# Altium footprint library PcbLib1.PcbLib: 35 footprints (part 2 of 3)
Each footprint in its own frame and in the unit in brackets; x right, y up, seen from the top. Pads: shape width x height; smd on the part's side, far side on the other; paste and mask are expansions set on the pad; w line width, h text height; cw(c..) or ccw(c..) is an arc to the next point about the centre after c.
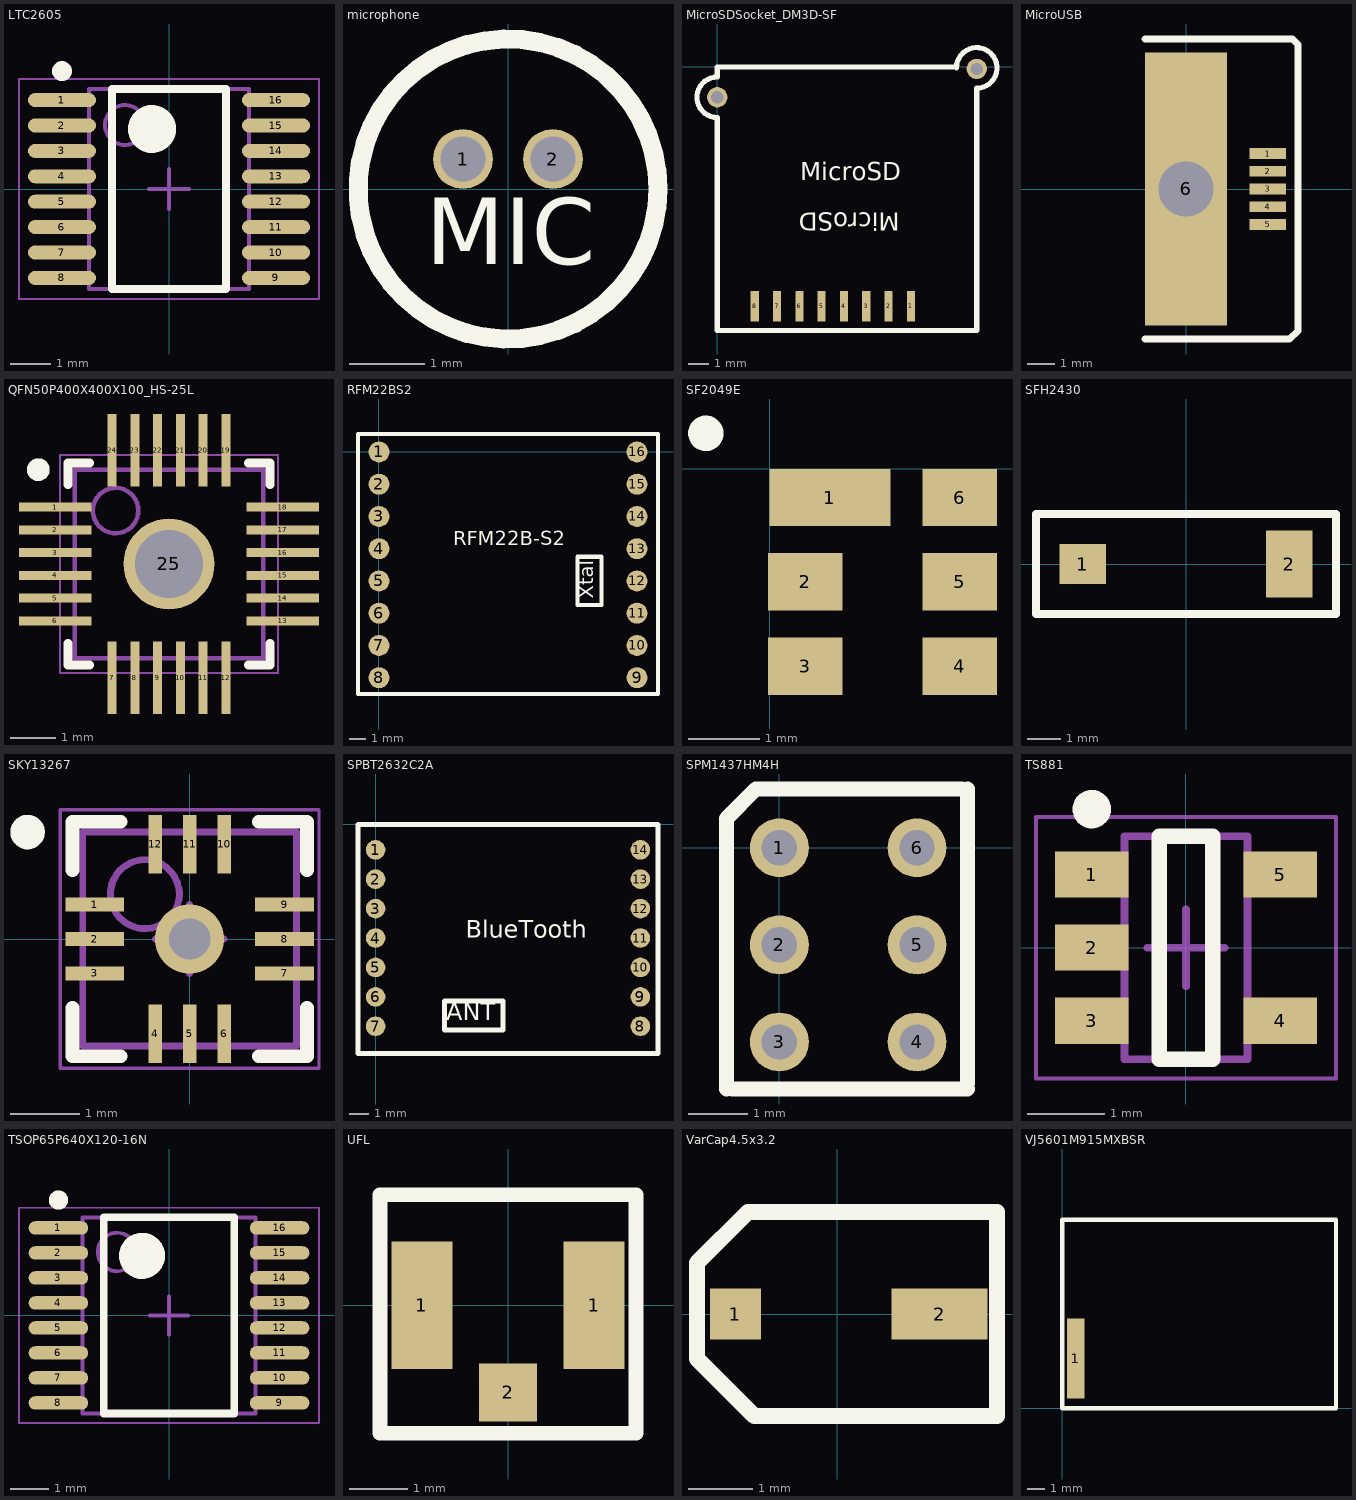
[diagram p1: the footprints below, top view; thin cyan lines are the x and y axes]

## LTC2605 [mm] "TSOP, 16-Leads, Body 4.89x3.90mm, Pitch 0.64mm, IPC Medium Density"
height 1.2
pads (16):
  oval 1.7x0.35 smd: 1(-2.675,2.222) 2(-2.675,1.587) 3(-2.675,0.953) 4(-2.675,0.318) 5(-2.675,-0.318) 6(-2.675,-0.953) 7(-2.675,-1.587) 8(-2.675,-2.222) 9(2.675,-2.222) 10(2.675,-1.587) 11(2.675,-0.953) 12(2.675,-0.318) 13(2.675,0.318) 14(2.675,0.953) 15(2.675,1.587) 16(2.675,2.222)
Top Overlay:
  circle w0.25: c-2.675,2.947 r0.125
  circle w0.6: c-0.425,1.5 r0.3
  lines w0.2: -1.425,-2.5 -1.425,2.5 1.425,2.5 1.425,-2.5 -1.425,-2.5
Mechanical 13:
  circle w0.1: c-1.1,1.6 r0.5
  lines w0.1: -2,-2.5 -2,2.5 2,2.5 2,-2.5 -2,-2.5
Mechanical 15:
  lines w0.05: -3.75,-2.75 -3.75,2.75 3.75,2.75 3.75,-2.75 -3.75,-2.75
  lines w0.1: -0.5,0 0.5,0 ; 0,-0.5 0,0.5

## microphone [mm]
pads (2):
  round 0.8 hole 0.6: 1(-0.6,0.4) 2(0.6,0.4)
Top Overlay:
  circle w0.254: c0,0 r2
  text "MIC" at -1.1,-1.3 h1.52

## MicroSDSocket_DM3D-SF [mm]
height 2
pads (10):
  rect 0.4x1.5 smd: 1(9.55,-11.8) 2(8.45,-11.8) 3(7.35,-11.8) 4(6.25,-11.8) 5(5.15,-11.8) 6(4.05,-11.8) 7(2.95,-11.8) 8(1.85,-11.8)
  round 1 hole 0.6: ""(0,-1.5) ""(12.8,-0.1)
Top Overlay:
  lines w0.254: 11.8,-0.05 cw(c12.8,-0.05) 12.8,-1.05 12.8,-13 0,-13 0,-2.5 cw(c0,-1.5) 0,-0.5 0,0 2.5,0 11.8,0
  text "MicroSD" at 4.1,-5.9 h1.52
  text "MicroSD" at 9,-6.9 h1.52

## MicroUSB [mm]
pads (6):
  rect 1.35x0.4 smd: 1(3,1.3) 2(3,0.65) 3(3,0) 4(3,-0.65) 5(3,-1.3)
  rect 3x10 hole 2: 6(0,0)
Top Overlay:
  lines w0.254: -1.5,-5.5 3.8,-5.5 4.1,-5.2 4.1,5.3 3.9,5.5 -1.5,5.5

## QFN50P400X400X100_HS-25L [mm] "QFN, 24-Leads, Body 4.00x4.00mm, Pitch 0.50mm, Thermal Pad 3.00x3.00mm, IPC High Density"
height 1
pads (25):
  rect 1.6x0.2 smd: 1(-12.5,11.25) 2(-12.5,10.75) 3(-12.5,10.25) 4(-12.5,9.75) 5(-12.5,9.25) 6(-12.5,8.75) 13(-7.5,8.75) 14(-7.5,9.25) 15(-7.5,9.75) 16(-7.5,10.25) 17(-7.5,10.75) 18(-7.5,11.25)
  rect 0.2x1.6 smd: 7(-11.25,7.5) 8(-10.75,7.5) 9(-10.25,7.5) 10(-9.75,7.5) 11(-9.25,7.5) 12(-8.75,7.5) 19(-8.75,12.5) 20(-9.25,12.5) 21(-9.75,12.5) 22(-10.25,12.5) 23(-10.75,12.5) 24(-11.25,12.5)
  round 2 hole 1.5: 25(-10,10)
Top Overlay:
  circle w0.25: c-12.875,12.075 r0.125
  lines w0.2: -12.225,8.25 -12.225,7.775 -11.75,7.775 ; -12.225,11.75 -12.225,12.225 -11.75,12.225 ; -8.25,7.775 -7.775,7.775 -7.775,8.25 ; -8.25,12.225 -7.775,12.225 -7.775,11.75
Mechanical 13:
  circle w0.1: c-11.175,11.175 r0.5
  lines w0.1: -12.075,7.925 -12.075,12.075 -7.925,12.075 -7.925,7.925 -12.075,7.925
Mechanical 15:
  lines w0.05: -12.4,7.6 -12.4,12.4 -7.6,12.4 -7.6,7.6 -12.4,7.6
  lines w0.1: -10.5,10 -9.5,10 ; -10,9.5 -10,10.5
3D body: height 1, standoff 0.01, extent -12.075,7.925 -7.925,12.075

## RFM22BS2 [mm]
height 2
pads (16):
  round 1.3 smd: 1(0,0) 2(0,-2) 3(0,-4) 4(0,-6) 5(0,-8) 6(0,-10) 7(0,-12) 8(0,-14) 9(16,-14) 10(16,-12) 11(16,-10) 12(16,-8) 13(16,-6) 14(16,-4) 15(16,-2) 16(16,0)
Top Overlay:
  lines w0.254: -1.3,-15 -1.3,1.1 17.3,1.1 17.3,-14.9 ; -1.2,-15 17.3,-15 ; 12.3,-9.5 12.3,-6.5 13.8,-6.5 13.8,-9.5 12.3,-9.5
  text "Xtal" at 13.6,-9.1 h1.52
  text "RFM22B-S2" at 4.6,-6.1 h1.52

## SF2049E [mm]
pads (6):
  rect 1.7x0.81 smd: 1(0.85,-0.405)
  rect 1.05x0.81 smd: 2(0.503,-1.595) 3(0.503,-2.785) 4(2.68,-2.785) 5(2.68,-1.595) 6(2.68,-0.405)
Top Overlay:
  circle w0.25: c-0.9,0.5 r0.125

## SFH2430 [mm]
pads (2):
  rect 1.4x1.2 smd: 1(-3.1,0)
  rect 1.4x2 smd: 2(3.1,0)
Top Overlay:
  lines w0.254: -4.5,-1.5 4.5,-1.5 4.5,1.5 -4.5,1.5 -4.5,-1.5

## SKY13267 [mm] "QFN, 12-Leads, Body 3.00x3.00mm, Pitch 0.50mm, Thermal Pad 1.43x1.43mm, IPC High Density"
height 1
pads (12):
  rect 0.85x0.2 smd: 1(-1.375,0.5) 2(-1.375,0) 3(-1.375,-0.5) 7(1.375,-0.5) 8(1.375,0) 9(1.375,0.5)
  rect 0.2x0.85 smd: 4(-0.5,-1.375) 5(0,-1.375) 6(0.5,-1.375) 10(0.5,1.375) 11(0,1.375) 12(-0.5,1.375)
via 0,0 diameter 1 hole 0.6
Top Overlay:
  circle w0.25: c-2.35,1.55 r0.125
  lines w0.2: -1.7,-1 -1.7,-1.7 -1,-1.7 ; -1.7,1 -1.7,1.7 -1,1.7 ; 1,-1.7 1.7,-1.7 1.7,-1 ; 1,1.7 1.7,1.7 1.7,1
Mechanical 13:
  circle w0.1: c-0.65,0.65 r0.5
  lines w0.1: -1.55,-1.55 -1.55,1.55 1.55,1.55 1.55,-1.55 -1.55,-1.55
Mechanical 15:
  lines w0.05: -1.875,-1.875 -1.875,1.875 1.875,1.875 1.875,-1.875 -1.875,-1.875
  lines w0.1: -0.5,0 0.5,0 ; 0,-0.5 0,0.5
3D body: height 1, standoff 0.01, extent -1.55,-1.55 1.55,1.55

## SPBT2632C2A [mm]
pads (14):
  round 1 smd: 1(0,-1.3) 2(0,-2.8) 3(0,-4.3) 4(0,-5.8) 5(0,-7.3) 6(0,-8.8) 7(0,-10.3) 8(13.5,-10.3) 9(13.5,-8.8) 10(13.5,-7.3) 11(13.5,-5.8) 12(13.5,-4.3) 13(13.5,-2.8) 14(13.5,-1.3)
Top Overlay:
  lines w0.254: -0.9,-11.7 -0.9,0 14.4,0 14.4,-11.7 -0.9,-11.7 ; 3.5,-10.5 6.5,-10.5 6.5,-9 3.5,-9 3.5,-10.5
  text "ANT" at 3.6,-10.3 h1.52
  text "BlueTooth" at 4.6,-6.1 h1.52

## SPM1437HM4H [mm]
pads (6):
  round 1 hole 0.6: 1(0,0) 2(0,-1.65) 3(0,-3.3) 4(2.34,-3.3) 5(2.34,-1.65) 6(2.34,0)
Top Overlay:
  lines w0.254: -0.9,-4.1 -0.9,0.5 -0.4,1 3.1,1 ; -0.8,-4.1 3.2,-4.1 ; 3.2,-4 3.2,1

## TS881 [mm] "SOT23, 5-Leads, Body 2.90x2.80mm, Pitch 0.95mm, IPC Medium Density"
height 1.1
pads (5):
  rect 0.95x0.6 smd: 1(-1.225,0.95) 2(-1.225,0) 3(-1.225,-0.95) 4(1.225,-0.95) 5(1.225,0.95)
Top Overlay:
  circle w0.25: c-1.225,1.8 r0.125
  lines w0.2: -0.35,-1.45 -0.35,1.45 0.35,1.45 0.35,-1.45 -0.35,-1.45
Mechanical 13:
  lines w0.1: -0.8,-1.45 0.8,-1.45 0.8,1.45 -0.8,1.45 -0.8,-1.45
Mechanical 15:
  lines w0.05: -1.95,-1.7 1.95,-1.7 1.95,1.7 -1.95,1.7 -1.95,-1.7
  lines w0.1: -0.5,0 0.5,0 ; 0,-0.5 0,0.5
3D body: height 1.1, standoff 0.05, extent -0.8,-1.45 0.8,1.45

## TSOP65P640X120-16N [mm] "TSOP, 16-Leads, Body 5.00x4.40mm, Pitch 0.65mm, IPC Medium Density"
height 1.2
pads (16):
  oval 1.55x0.35 smd: 1(-2.875,2.275) 2(-2.875,1.625) 3(-2.875,0.975) 4(-2.875,0.325) 5(-2.875,-0.325) 6(-2.875,-0.975) 7(-2.875,-1.625) 8(-2.875,-2.275) 9(2.875,-2.275) 10(2.875,-1.625) 11(2.875,-0.975) 12(2.875,-0.325) 13(2.875,0.325) 14(2.875,0.975) 15(2.875,1.625) 16(2.875,2.275)
Top Overlay:
  circle w0.6: c-0.7,1.55 r0.3
  circle w0.25: c-2.875,3 r0.125
  lines w0.2: -1.7,-2.55 1.7,-2.55 1.7,2.55 -1.7,2.55 -1.7,-2.55
Mechanical 13:
  circle w0.1: c-1.35,1.65 r0.5
  lines w0.1: -2.25,-2.55 2.25,-2.55 2.25,2.55 -2.25,2.55 -2.25,-2.55
Mechanical 15:
  lines w0.05: -3.9,-2.8 3.9,-2.8 3.9,2.8 -3.9,2.8 -3.9,-2.8
  lines w0.1: -0.5,0 0.5,0 ; 0,-0.5 0,0.5
3D body: height 1.2, standoff 0.1, extent -2.25,-2.55 2.25,2.55

## UFL [mm] "UFL connector"
height 1.25
pads (3):
  rect 1.05x2.2 smd: 1(-1.48,0) 1(1.48,0)
  rect 1x1 smd: 2(0,-1.5)
Top Overlay:
  lines w0.254: -2.2,-2.2 2.2,-2.2 2.2,1.9 -2.2,1.9 -2.2,-2.2
Multi-Layer:
  pour cut-out: -0.9,1.2 0.9,1.2 0.9,-0.9 -0.9,-0.9

## VarCap4.5x3.2 [mm] "4.5mm*3.2mm"
height 2
pads (2):
  rect 0.8x0.8 smd: 1(-1.6,0)
  rect 1.5x0.8 smd: 2(1.6,0)
Top Overlay:
  lines w0.254: -2.2,-0.7 -1.3,-1.6 2.5,-1.6 2.5,1.6 -1.4,1.6 -2.2,0.8 -2.2,-0.7

## VJ5601M915MXBSR [mm]
pads (1):
  rect 1x4.65 smd: 1(0.8,2.9)
Top Overlay:
  lines w0.254: 0,11 0,0 16,0 16,11 0.1,11